# EAGLE library part RJMG2310228A0ER (library RJMG2310228A0ER)
Check availability <https://pricing.snapeda.com/parts/RJMG2310228A0ER/Amphenol%20ICC/view-part?ref=eda>
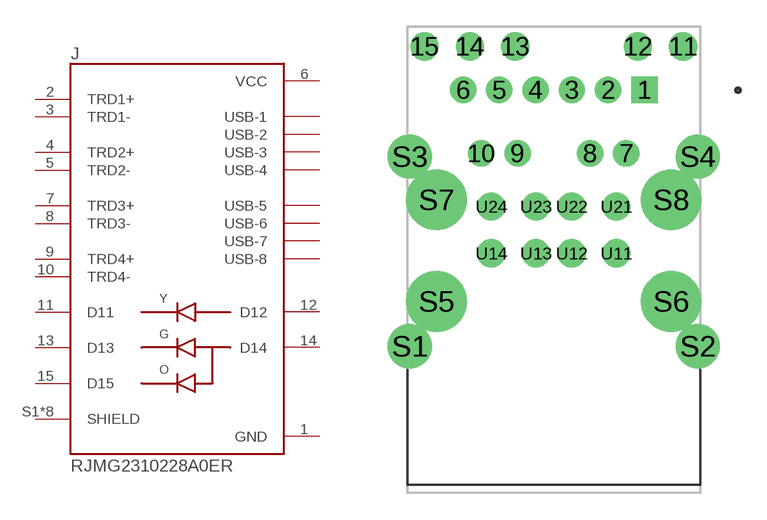
[diagram p0: symbol with the pads of AMPHENOL_RJMG2310228A0ER; footprint AMPHENOL_RJMG2310228A0ER]

Designator prefix J

## RJMG2310228A0ER (Availability: In Stock; Description: RJ Magnetic (RJMG) - Stacked, Input Output Connectors, Right angle, dip type, RJ45 + Over Dual USB 2.0,1000 baseT,Green/Green-Orange; MF: Amphenol ICC; MP: RJMG2310228A0ER; Package: None; Price: None; Purchase-URL: https://pricing.snapeda.com/search/part/RJMG2310228A0ER/?ref=eda)  [AMPHENOL_RJMG2310228A0ER]
1  GND  pwr
2  TRD1+  pas
3  TRD1-  pas
4  TRD2+  pas
5  TRD2-  pas
6  VCC  pwr
7  TRD3+  pas
8  TRD3-  pas
9  TRD4+  pas
10  TRD4-  pas
11  D11  pas
12  D12  pas
13  D13  pas
14  D14  pas
15  D15  pas
S1  SHIELD  pas
S2  SHIELD  pas
S3  SHIELD  pas
S4  SHIELD  pas
S5  SHIELD  pas
S6  SHIELD  pas
S7  SHIELD  pas
S8  SHIELD  pas
U11  USB-1  pas
U12  USB-2  pas
U13  USB-3  pas
U14  USB-4  pas
U21  USB-5  pas
U22  USB-6  pas
U23  USB-7  pas
U24  USB-8  pas

## Footprint AMPHENOL_RJMG2310228A0ER (pad centres in mm)
drill 0.97 square: 1 5.075,6.15
drill 0.97: 2 3.045,6.15; 3 1.015,6.15; 4 -1.015,6.15; 5 -3.045,6.15; 6 -5.075,6.15; 7 4.06,2.6; 8 2.03,2.6; 9 -2.03,2.6; 10 -4.06,2.6
drill 1.05: 11 7.24,8.59; 12 4.7,8.59; 13 -2.16,8.59; 14 -4.7,8.59; 15 -7.24,8.59; U11 3.5,-2.99; U12 1,-2.99; U13 -1,-2.99; U14 -3.5,-2.99; U21 3.5,-0.37; U22 1,-0.37; U23 -1,-0.37; U24 -3.5,-0.37
drill 1.65 pad 2: S1 -8.065,-8.2; S2 8.065,-8.2; S3 -8.065,2.42; S4 8.065,2.42
drill 2.39 pad 2.74: S5 -6.565,-5.69; S6 6.565,-5.69; S7 -6.565,0; S8 6.565,0